# Altium schematic symbol library DX07S024JJ2R1300.SchLib: 1 symbol
Pins are listed as number, name and electrical type; pins without a type are passive.

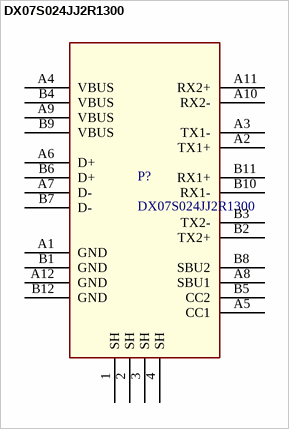
[diagram p0: symbol DX07S024JJ2R1300]

## DX07S024JJ2R1300
designator P?
24P USB C DUAL SMT ON BOARD
footprint DX07_USB_C (DX07S024JJ2R1300)
pins: 1 SH, 2 SH, 3 SH, 4 SH, A1 GND, A2 TX1+, A3 TX1-, A4 VBUS, A5 CC1, A6 D+, A7 D-, A8 SBU1, A9 VBUS, A10 RX2-, A11 RX2+, A12 GND, B1 GND, B2 TX2+, B3 TX2-, B4 VBUS, B5 CC2, B6 D+, B7 D-, B8 SBU2, B9 VBUS, B10 RX1-, B11 RX1+, B12 GND